# Altium schematic symbol library Omron G6K.Schlib: 1 symbol
Pins are listed as number, name and electrical type; pins without a type are passive.

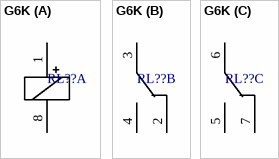
[diagram p0: symbol G6K]

## G6K
designator RL??
Single-side stable, Inside-L surface mounting terminal, 5DC; Manufacturer: Omron; Value: G6K-2G-Y-DC5; TYPE: Relays; ComponentLink1Description: Datasheet Link; ComponentLink1URL: https://ru.mouser.com/datasheet/2/307/en-g6k-348800.pdf; Technology: Signal relays; Mount Type: SMT; Part Number: G6K-2G-Y-DC5; RoHS: Y; Supplier 1: Mouser; Supplier Part Number 1: 653-G6K-2G-Y-DC5
footprint OMRON_G6K_2G_Y
part A pins: 1, 8
part B pins: 2, 3, 4
part C pins: 5, 6, 7